# Altium footprint library Hot_Swap_Voltage_Controllers.PcbLib: 1 footprints
Each footprint in its own frame and in the unit in brackets; x right, y up, seen from the top. Pads: shape width x height; smd on the part's side, far side on the other; paste and mask are expansions set on the pad; w line width, h text height; cw(c..) or ccw(c..) is an arc to the next point about the centre after c.
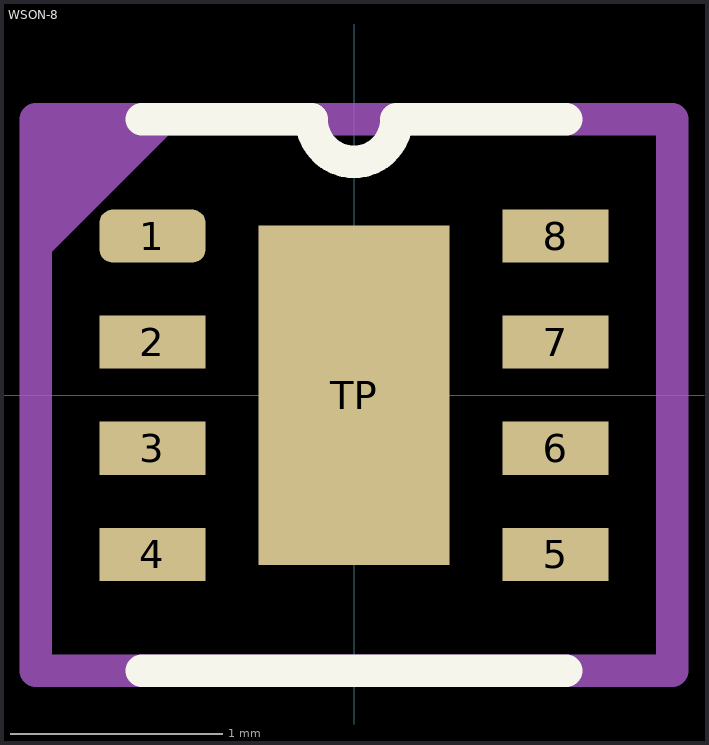
[diagram p0: the footprint, top view; thin cyan lines are the x and y axes]

## WSON-8 [mm]
pads (9):
  rrect50% 0.5x0.25 smd: 1(-0.95,0.75)
  rect 0.5x0.25 smd: 2(-0.95,0.25) 3(-0.95,-0.25) 4(-0.95,-0.75) 5(0.95,-0.75) 6(0.95,-0.25) 7(0.95,0.25) 8(0.95,0.75)
  rect 0.9x1.6 smd: TP(0,0)
Top Overlay:
  lines w0.153: -1,-1.3 1,-1.3 ; -1,1.3 -0.2,1.3 ccw(c0,1.3) 0.2,1.3 1,1.3
Top Assembly:
  region: -1.5,1.3 -1.5,0.6 -0.8,1.3
  lines w0.1: -1.5,-1.3 1.5,-1.3 1.5,1.3 -1.5,1.3 -1.5,-1.3
  text "'.Designator'" at -4.532,-0.333 h0.8
Top Courtyard:
  lines w0.153: -0.3,0 0.3,0 ; 0,-0.3 0,0.3 ; -1.5,-1.3 -1.5,1.3 1.5,1.3 1.5,-1.3 -1.5,-1.3
3D body "TPS259570DSGR.STEP": height 0.8, standoff 0, extent -1,-1 1,1